# EAGLE library part LMZ21700 (library ic_voltage_regulator)
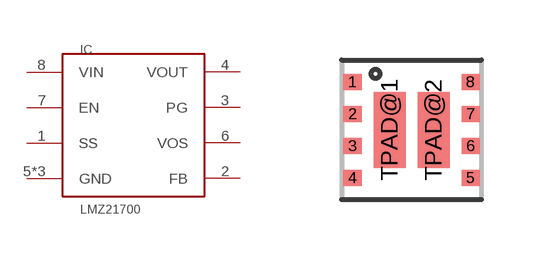
[diagram p0: symbol with the pads of LMZ21700; footprint LMZ21700]

Designator prefix IC

## LMZ21700  [LMZ21700]
1  SS
2  FB
3  PG
4  VOUT
5  GND
6  VOS
7  EN
8  VIN
TPAD@1  GND
TPAD@2  GND

## Footprint LMZ21700 (pad centres in mm)
smd 0.45 x 0.4: 1 -1.475,1.2; 2 -1.475,0.4; 3 -1.475,-0.4; 4 -1.475,-1.2; 5 1.475,-1.2; 6 1.475,-0.4; 7 1.475,0.4; 8 1.475,1.2
smd 0.8 x 1.9: TPAD@1 -0.55,0; TPAD@2 0.55,0